# Altium footprint library SQW-125-01-XXX-D-VS-LC.PcbLib: 1 footprints
Each footprint in its own frame and in the unit in brackets; x right, y up, seen from the top. Pads: shape width x height; smd on the part's side, far side on the other; paste and mask are expansions set on the pad; w line width, h text height; cw(c..) or ccw(c..) is an arc to the next point about the centre after c.
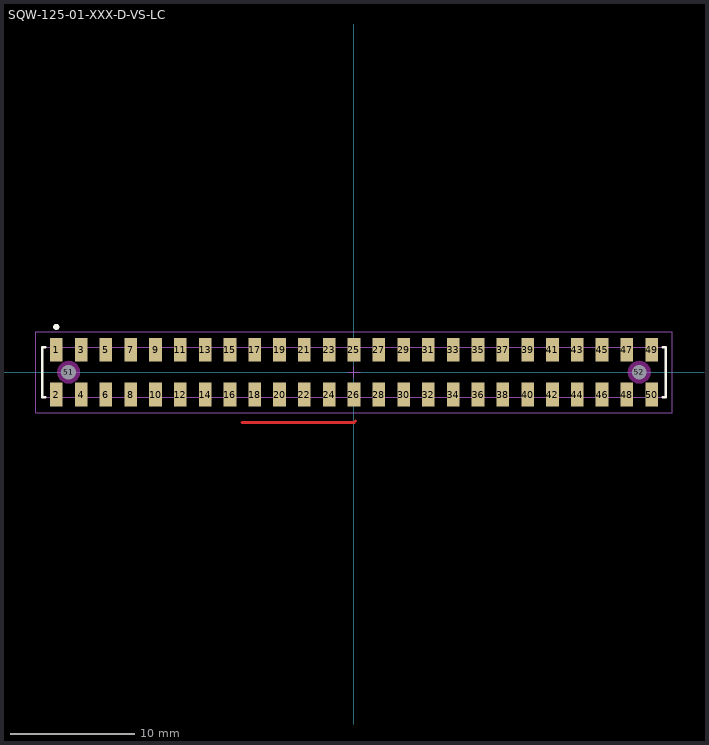
[diagram p0: the footprint, top view; thin cyan lines are the x and y axes]

## SQW-125-01-XXX-D-VS-LC [mm] "2.00mm pitch, 50 pin, socket strip; double row, SMT"
height 6.35
pads (52):
  rect 1.02x1.91 smd mask+0: 1(-24.001,1.8) 2(-24.001,-1.8) 3(-22.001,1.8) 4(-22.001,-1.8) 5(-20.001,1.8) 6(-20.001,-1.8) 7(-18.001,1.8) 8(-18.001,-1.8) 9(-16.001,1.8) 10(-16.001,-1.8) 11(-14.001,1.8) 12(-14.001,-1.8) 13(-12.001,1.8) 14(-12.001,-1.8) 15(-10.001,1.8) 16(-10.001,-1.8) 17(-8.001,1.8) 18(-8.001,-1.8) 19(-6.001,1.8) 20(-6.001,-1.8) 21(-4.001,1.8) 22(-4.001,-1.8) 23(-2.001,1.8) 24(-2.001,-1.8) 25(-0.001,1.8) 26(-0.001,-1.8) 27(1.999,1.8) 28(1.999,-1.8) 29(3.999,1.8) 30(3.999,-1.8) 31(5.999,1.8) 32(5.999,-1.8) 33(7.999,1.8) 34(7.999,-1.8) 35(9.999,1.8) 36(9.999,-1.8) 37(11.999,1.8) 38(11.999,-1.8) 39(13.999,1.8) 40(13.999,-1.8) 41(15.999,1.8) 42(15.999,-1.8) 43(17.999,1.8) 44(17.999,-1.8) 45(19.999,1.8) 46(19.999,-1.8) 47(21.999,1.8) 48(21.999,-1.8) 49(23.999,1.8) 50(23.999,-1.8)
  round 1 hole 1.2 unplated mask+0: 51(-23.001,0) 52(22.999,0)
Top Layer:
  lines w0.254: -9.017,-4.064 0,-4.064 0.127,-3.937
Top Overlay:
  circle w0.25: c-24.001,3.65 r0.125
  lines w0.2: -24.901,-2 -25.151,-2 -25.151,2 -24.901,2 ; 24.899,-2 25.149,-2 25.149,2 24.899,2
Keep-Out Layer:
  pour cut-out: 23.907,0 23.876,0.235 23.785,0.454 23.641,0.642 23.453,0.786 23.234,0.877 22.999,0.908 22.764,0.877 22.545,0.786 22.357,0.642 22.213,0.454 22.122,0.235 22.091,0 22.122,-0.235 22.213,-0.454 22.357,-0.642 22.545,-0.786 22.764,-0.877 22.999,-0.908 23.234,-0.877 23.453,-0.786 23.641,-0.642 23.785,-0.454 23.876,-0.235
  pour cut-out: -22.093,0 -22.124,0.235 -22.215,0.454 -22.359,0.642 -22.547,0.786 -22.766,0.877 -23.001,0.908 -23.236,0.877 -23.455,0.786 -23.643,0.642 -23.787,0.454 -23.878,0.235 -23.909,0 -23.878,-0.235 -23.787,-0.454 -23.643,-0.642 -23.455,-0.786 -23.236,-0.877 -23.001,-0.908 -22.766,-0.877 -22.547,-0.786 -22.359,-0.642 -22.215,-0.454 -22.124,-0.235
Mechanical 12:
  lines w0.001: 9.149,-2 -25.151,-2 -25.151,2 9.149,2 ; 25.149,-2 25.149,2
Mechanical 13:
  lines w0.1: 24.892,-2 -25.151,-2 -25.151,2 25.019,2 ; 25.149,-2 25.149,2
  text ".Designator" at 3.048,-0.635 h1.52
Mechanical 15:
  lines w0.05: -0.5,0 0.5,0 ; 0,-0.5 0,0.5 ; 25.649,-3.25 25.649,3.25 ; 25.654,-3.25 -25.651,-3.25 -25.651,3.25 25.654,3.25